# Altium footprint library IC.PcbLib: 28 footprints (part 2 of 2)
Each footprint in its own frame and in the unit in brackets; x right, y up, seen from the top. Pads: shape width x height; smd on the part's side, far side on the other; paste and mask are expansions set on the pad; w line width, h text height; cw(c..) or ccw(c..) is an arc to the next point about the centre after c.
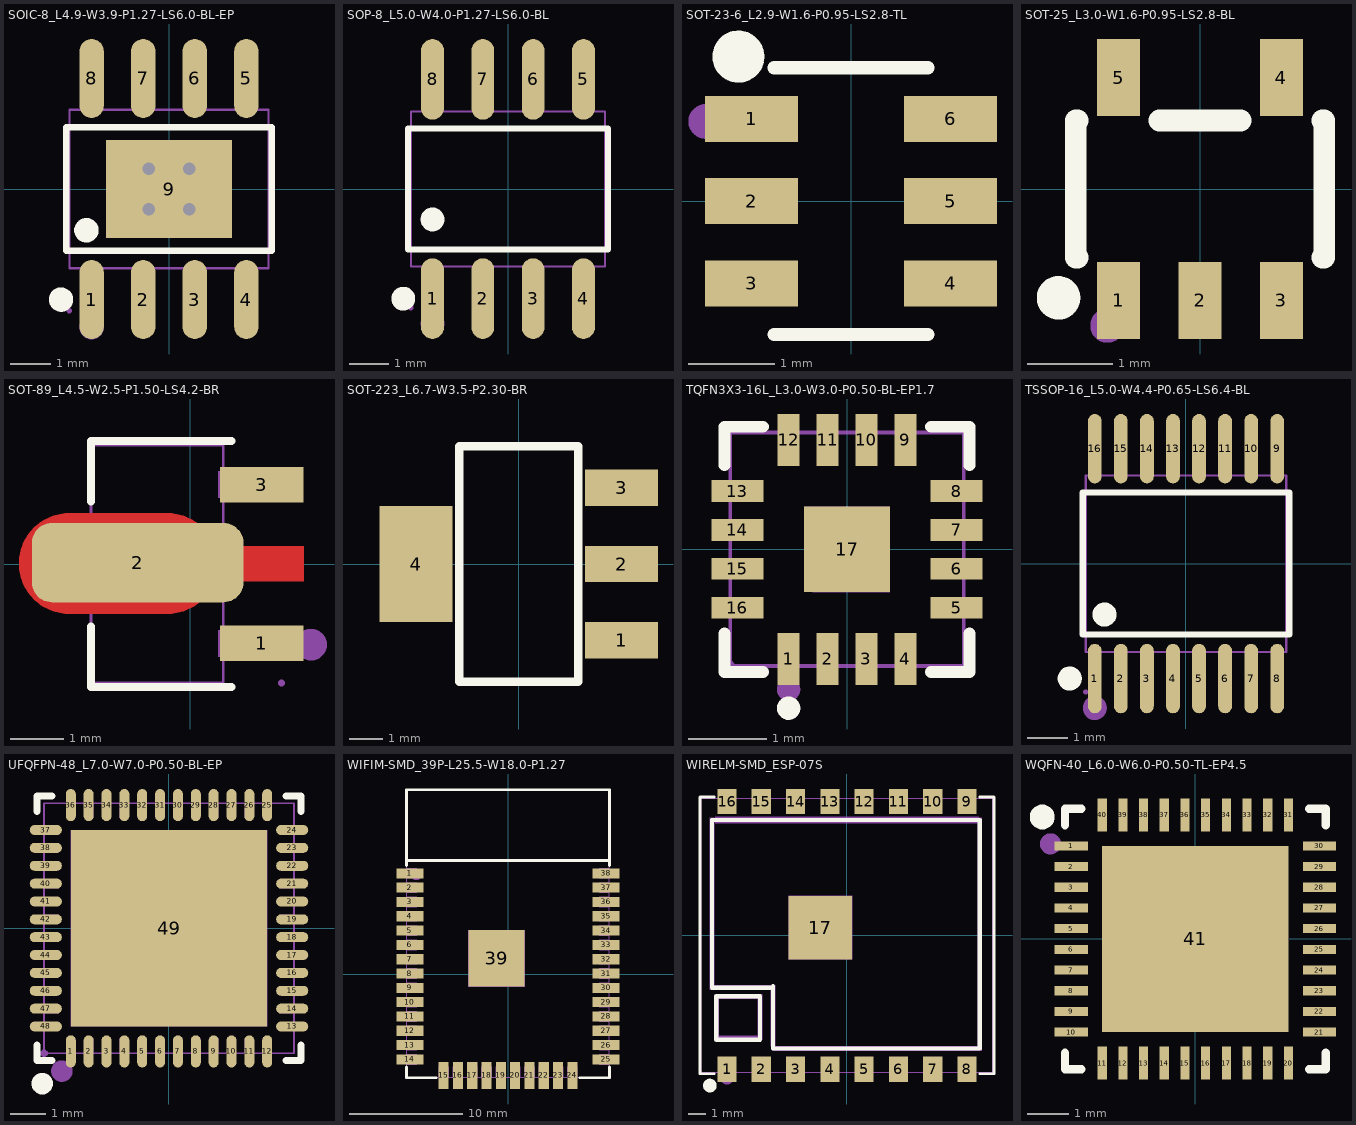
[diagram p1: the footprints below, top view; thin cyan lines are the x and y axes]

## SOIC-8_L4.9-W3.9-P1.27-LS6.0-BL-EP [mm]
pads (9):
  oval 0.602x1.941 smd mask+0.051: 1(-1.905,-2.721) 2(-0.635,-2.721) 3(0.635,-2.721) 4(1.905,-2.721) 5(1.905,2.721) 6(0.635,2.721) 7(-0.635,2.721) 8(-1.905,2.721)
  rect 3.098x2.41 smd mask+0.051: 9(0,0)
via -0.5,0.5 diameter 0.61 hole 0.305
via 0.5,0.5 diameter 0.61 hole 0.305
via -0.5,-0.5 diameter 0.61 hole 0.305
via 0.5,-0.5 diameter 0.61 hole 0.305
Top Overlay:
  circle w0.3: c-2.032,-1.016 r0.15
  circle w0.3: c-2.658,-2.721 r0.15
  lines w0.152: -2.526,-1.521 -2.526,1.521 2.526,1.521 2.526,-1.521 -2.526,-1.521
Mechanical 6:
  circle w0.3: c-1.905,-3.4 r0.15
Mechanical 15:
  region: -2.39,-3 -2.39,-2.975 -2.425,-2.94 -2.475,-2.94 -2.51,-2.975 -2.51,-3 -2.51,-3.025 -2.475,-3.06 -2.425,-3.06 -2.39,-3.025
  region: -2.12,-3 -2.12,-2.35 -1.69,-2.35 -1.69,-3
  region: -2.12,-2.36 -2.12,-1.94 -1.69,-1.94 -1.69,-2.36
  region: -0.85,-3 -0.85,-2.35 -0.42,-2.35 -0.42,-3
  region: -0.85,-2.36 -0.85,-1.94 -0.42,-1.94 -0.42,-2.36
  region: 0.42,-3 0.42,-2.35 0.85,-2.35 0.85,-3
  region: 0.42,-2.36 0.42,-1.94 0.85,-1.94 0.85,-2.36
  region: 1.69,-3 1.69,-2.35 2.12,-2.35 2.12,-3
  region: 1.69,-2.36 1.69,-1.94 2.12,-1.94 2.12,-2.36
  region: -2.12,3 -2.12,2.35 -1.69,2.35 -1.69,3
  region: -2.12,2.36 -2.12,1.94 -1.69,1.94 -1.69,2.36
  region: -0.85,3 -0.85,2.35 -0.42,2.35 -0.42,3
  region: -0.85,2.36 -0.85,1.94 -0.42,1.94 -0.42,2.36
  region: 0.42,3 0.42,2.35 0.85,2.35 0.85,3
  region: 0.42,2.36 0.42,1.94 0.85,1.94 0.85,2.36
  region: 1.69,3 1.69,2.35 2.12,2.35 2.12,3
  region: 1.69,2.36 1.69,1.94 2.12,1.94 2.12,2.36
  region: -1.549,1.205 1.549,1.205 1.549,-1.205 -1.549,-1.205
  lines w0.051: -2.45,-1.95 -2.45,1.95 2.45,1.95 2.45,-1.95 -2.45,-1.95
3D body "User Library-SOIC-8-1.step": height 1.75, standoff 0, extent -2.45,-3 2.45,3

## SOP-8_L5.0-W4.0-P1.27-LS6.0-BL [mm]
pads (8):
  oval 0.574x2.036 smd paste+0 mask+0.051: 1(-1.905,-2.768) 2(-0.635,-2.768) 3(0.635,-2.768) 4(1.905,-2.768) 5(1.905,2.768) 6(0.635,2.768) 7(-0.635,2.768) 8(-1.905,2.768)
Top Overlay:
  circle w0.3: c-2.644,-2.768 r0.15
  circle w0.3: c-1.905,-0.769 r0.15
  lines w0.152: -2.526,-1.521 2.526,-1.521 2.526,1.521 -2.526,1.521 -2.526,-1.521
Mechanical 6:
  circle w0.3: c-1.905,-3.398 r0.15
Mechanical 15:
  region: 1.7,2.172 1.7,1.94 2.11,1.94 2.11,2.172
  region: 1.7,2.998 1.7,2.163 2.11,2.163 2.11,2.998
  region: 0.43,2.172 0.43,1.94 0.84,1.94 0.84,2.172
  region: 0.43,2.998 0.43,2.163 0.84,2.163 0.84,2.998
  region: -0.84,2.172 -0.84,1.94 -0.43,1.94 -0.43,2.172
  region: -0.84,2.998 -0.84,2.163 -0.43,2.163 -0.43,2.998
  region: -2.11,2.172 -2.11,1.94 -1.7,1.94 -1.7,2.172
  region: -2.11,2.998 -2.11,2.163 -1.7,2.163 -1.7,2.998
  region: 1.7,-2.172 1.7,-1.94 2.11,-1.94 2.11,-2.172
  region: 1.7,-2.998 1.7,-2.163 2.11,-2.163 2.11,-2.998
  region: 0.43,-2.172 0.43,-1.94 0.84,-1.94 0.84,-2.172
  region: 0.43,-2.998 0.43,-2.163 0.84,-2.163 0.84,-2.998
  region: -0.84,-2.172 -0.84,-1.94 -0.43,-1.94 -0.43,-2.172
  region: -0.84,-2.998 -0.84,-2.163 -0.43,-2.163 -0.43,-2.998
  region: -2.11,-2.172 -2.11,-1.94 -1.7,-1.94 -1.7,-2.172
  region: -2.11,-2.998 -2.11,-2.163 -1.7,-2.163 -1.7,-2.998
  region: -2.39,-2.998 -2.39,-2.973 -2.425,-2.938 -2.475,-2.938 -2.51,-2.973 -2.51,-2.998 -2.51,-3.022 -2.475,-3.057 -2.425,-3.057 -2.39,-3.022
  lines w0.051: -2.45,-1.95 2.45,-1.95 2.45,1.95 -2.45,1.95 -2.45,-1.95
3D body "User Library-sop-8.step": height 1.6, standoff 0, extent -2.51,-3.021 2.51,3.021

## SOT-23-6_L2.9-W1.6-P0.95-LS2.8-TL [mm]
pads (6):
  rect 1.072x0.532 smd: 1(-1.149,0.95) 2(-1.149,0) 3(-1.149,-0.95) 4(1.149,-0.95) 5(1.149,0) 6(1.149,0.95)
Top Overlay:
  circle w0.3: c-1.301,1.668 r0.15
  lines w0.152: -0.889,-1.539 0.889,-1.539 ; -0.889,1.539 0.889,1.539
Mechanical 15:
  circle w0.2: c-1.68,0.92 r0.1
3D body "User Library-SOT23-6-1.step": height 1.09, standoff 0, extent -1.245,-1.41 1.181,1.384

## SOT-25_L3.0-W1.6-P0.95-LS2.8-BL [mm]
pads (5):
  rect 0.5x0.9 smd: 1(-0.95,-1.3) 2(0,-1.3) 3(0.95,-1.3) 4(0.95,1.3) 5(-0.95,1.3)
Top Overlay:
  circle w0.254: c-1.651,-1.27 r0.127
  lines w0.254: -1.426,-0.8 -1.45,-0.8 -1.45,0.8 -1.426,0.8 ; -0.474,0.8 0.474,0.8 ; 1.426,-0.8 1.45,-0.8 1.45,0.8 1.426,0.8
Mechanical 15:
  circle w0.2: c-1.081,-1.593 r0.1
3D body "User Library-sot25.step": height 1.1, standoff -0.05, extent -1.5,-1.198 1.5,1.202

## SOT-89_L4.5-W2.5-P1.50-LS4.2-BR [mm]
pads (3):
  rect 1.575x0.672 smd paste+0 mask+0.051: 1(1.356,-1.5) 3(1.356,1.5)
  rrect50% 4x1.5 smd: 2(-0.991,0.025)
Top Layer:
  region: -2.283,0.959 -0.429,0.959 -0.385,0.958 -0.34,0.955 -0.296,0.949 -0.252,0.942 -0.208,0.933 -0.165,0.921 -0.123,0.908 -0.081,0.893 -0.04,0.875 0,0.856 0.04,0.835 0.078,0.812 0.115,0.788 0.151,0.761 0.185,0.733 0.219,0.704 0.251,0.673 0.281,0.64 0.31,0.606 0.337,0.571 0.362,0.534 0.386,0.497 0.408,0.458 0.428,0.418 0.447,0.339 2.144,0.339 2.144,-0.321 0.447,-0.321 0.428,-0.401 0.408,-0.44 0.386,-0.479 0.362,-0.517 0.337,-0.553 0.31,-0.588 0.281,-0.622 0.251,-0.655 0.219,-0.686 0.185,-0.716 0.151,-0.744 0.115,-0.77 0.078,-0.795 0.04,-0.818 0,-0.839 -0.04,-0.858 -0.081,-0.875 -0.123,-0.89 -0.165,-0.904 -0.208,-0.915 -0.252,-0.925 -0.296,-0.932 -0.34,-0.937 -0.385,-0.94 -0.429,-0.941 -2.283,-0.941 -2.328,-0.94 -2.372,-0.937 -2.416,-0.932 -2.46,-0.925 -2.504,-0.915 -2.547,-0.904 -2.589,-0.89 -2.631,-0.875 -2.672,-0.858 -2.713,-0.839 -2.752,-0.818 -2.79,-0.795 -2.827,-0.77 -2.863,-0.744 -2.898,-0.716 -2.931,-0.686 -2.963,-0.655 -2.993,-0.622 -3.022,-0.588 -3.049,-0.553 -3.075,-0.517 -3.098,-0.479 -3.12,-0.44 -3.141,-0.401 -3.159,-0.36 -3.175,-0.318 -3.189,-0.276 -3.202,-0.233 -3.212,-0.19 -3.22,-0.146 -3.227,-0.102 -3.231,-0.058 -3.233,-0.013 -3.233,0.031 -3.231,0.076 -3.227,0.12 -3.22,0.164 -3.212,0.208 -3.202,0.251 -3.189,0.294 -3.175,0.336 -3.159,0.377 -3.141,0.418 -3.12,0.458 -3.098,0.497 -3.075,0.534 -3.049,0.571 -3.022,0.606 -2.993,0.64 -2.963,0.673 -2.931,0.704 -2.898,0.733 -2.863,0.761 -2.827,0.788 -2.79,0.812 -2.752,0.835 -2.713,0.856 -2.672,0.875 -2.631,0.893 -2.589,0.908 -2.547,0.921 -2.504,0.933 -2.46,0.942 -2.416,0.949 -2.372,0.955 -2.328,0.958
Top Overlay:
  lines w0.152: -1.871,-1.177 -1.871,-2.326 0.781,-2.326 ; -1.871,1.177 -1.871,2.326 0.781,2.326
Mechanical 6:
  circle w0.3: c2.286,-1.524 r0.15
Mechanical 15:
  region: 0.529,1.75 1.729,1.75 1.729,1.25 0.529,1.25
  region: 0.529,-1.25 1.729,-1.25 1.729,-1.75 0.529,-1.75
  region: 0.439,-0.26 1.724,-0.26 1.724,0.26 0.439,0.26 -0.136,0.863 -1.796,0.863 -2.371,0.288 -2.371,-0.287 -1.796,-0.862 -0.136,-0.862
  region: 1.789,-2.25 1.789,-2.225 1.754,-2.19 1.704,-2.19 1.669,-2.225 1.669,-2.25 1.669,-2.275 1.704,-2.31 1.754,-2.31 1.789,-2.275
  lines w0.051: -1.871,-2.25 0.629,-2.25 0.629,2.25 -1.871,2.25 -1.871,-2.25
3D body "CircuitWorks-SOT-89.step": height 1.5, standoff 0, extent -2.385,-2.225 1.615,2.275

## SOT-223_L6.7-W3.5-P2.30-BR [mm]
pads (4):
  rect 2.2x1.1 smd: 1(3.099,-2.3) 2(3.099,0) 3(3.099,2.3)
  rect 2.2x3.5 smd: 4(-3.099,0)
Top Overlay:
  lines w0.254: -1.8,-3.55 1.8,-3.55 1.8,3.55 -1.8,3.55 -1.8,-3.55
Mechanical 15:
  circle w0.254: c3.683,-2.286 r0.127
3D body "CircuitWorks-SOT-223.step": height 1.66, standoff -0.02, extent -3.48,-3.25 3.48,3.25

## TQFN3X3-16L_L3.0-W3.0-P0.50-BL-EP1.7 [mm]
pads (17):
  rect 0.28x0.665 smd paste+0 mask+0.051: 1(-0.75,-1.407) 2(-0.25,-1.407) 3(0.25,-1.407) 4(0.75,-1.407) 9(0.75,1.407) 10(0.25,1.407) 11(-0.25,1.407) 12(-0.75,1.407)
  rect 0.665x0.28 smd paste+0 mask+0.051: 5(1.407,-0.75) 6(1.407,-0.25) 7(1.407,0.25) 8(1.407,0.75) 13(-1.407,0.75) 14(-1.407,0.25) 15(-1.407,-0.25) 16(-1.407,-0.75)
  rect 1.1x1.1 smd paste+0 mask+0.051: 17(0,0)
Top Overlay:
  circle w0.15: c-0.75,-2.04 r0.075
  lines w0.152: -1.576,-1.08 -1.576,-1.576 -1.08,-1.576 ; -1.576,1.08 -1.576,1.576 -1.08,1.576 ; 1.08,-1.576 1.576,-1.576 1.576,-1.08 ; 1.08,1.576 1.576,1.576 1.576,1.08
Mechanical 6:
  circle w0.15: c-0.75,-1.8 r0.075
Mechanical 15:
  region: -1.44,-1.5 -1.44,-1.475 -1.475,-1.44 -1.525,-1.44 -1.56,-1.475 -1.56,-1.5 -1.56,-1.525 -1.525,-1.56 -1.475,-1.56 -1.44,-1.525
  region: -0.875,-1.5 -0.875,-1.1 -0.625,-1.1 -0.625,-1.5
  region: -0.375,-1.5 -0.375,-1.1 -0.125,-1.1 -0.125,-1.5
  region: 0.125,-1.5 0.125,-1.1 0.375,-1.1 0.375,-1.5
  region: 0.625,-1.5 0.625,-1.1 0.875,-1.1 0.875,-1.5
  region: 1.1,-0.875 1.1,-0.625 1.5,-0.625 1.5,-0.875
  region: 1.1,-0.375 1.1,-0.125 1.5,-0.125 1.5,-0.375
  region: 1.1,0.125 1.1,0.375 1.5,0.375 1.5,0.125
  region: 1.1,0.625 1.1,0.875 1.5,0.875 1.5,0.625
  region: 0.625,1.5 0.625,1.1 0.875,1.1 0.875,1.5
  region: 0.125,1.5 0.125,1.1 0.375,1.1 0.375,1.5
  region: -0.375,1.5 -0.375,1.1 -0.125,1.1 -0.125,1.5
  region: -0.875,1.5 -0.875,1.1 -0.625,1.1 -0.625,1.5
  region: -1.1,0.625 -1.1,0.875 -1.5,0.875 -1.5,0.625
  region: -1.1,0.125 -1.1,0.375 -1.5,0.375 -1.5,0.125
  region: -1.1,-0.375 -1.1,-0.125 -1.5,-0.125 -1.5,-0.375
  region: -1.1,-0.875 -1.1,-0.625 -1.5,-0.625 -1.5,-0.875
  region: -0.55,-0.44 -0.55,0.55 0.55,0.55 0.55,-0.55 -0.44,-0.55
  lines w0.051: -1.5,-1.5 -1.5,1.5 1.5,1.5 1.5,-1.5 -1.5,-1.5
3D body "U1.step": height 0.82, standoff 0, extent -1.519,-1.518 1.516,1.516

## TSSOP-16_L5.0-W4.4-P0.65-LS6.4-BL [mm]
pads (16):
  oval 0.343x1.731 smd paste+0 mask+0.051: 1(-2.275,-2.866) 2(-1.625,-2.866) 3(-0.975,-2.866) 4(-0.325,-2.866) 5(0.325,-2.866) 6(0.975,-2.866) 7(1.625,-2.866) 8(2.275,-2.866) 9(2.275,2.866) 10(1.625,2.866) 11(0.975,2.866) 12(0.325,2.866) 13(-0.325,2.866) 14(-0.975,2.866) 15(-1.625,2.866) 16(-2.275,2.866)
Top Overlay:
  circle w0.3: c-2.899,-2.866 r0.15
  circle w0.3: c-2.032,-1.27 r0.15
  lines w0.152: -2.576,-1.771 2.576,-1.771 2.576,1.772 -2.576,1.772 -2.576,-1.771
Mechanical 6:
  circle w0.3: c-2.275,-3.6 r0.15
Mechanical 15:
  drawing of 37 lines, arcs and shapes, not listed
3D body "User Library-TSSOP-16-1.step": height 1.1, standoff 0, extent -2.5,-3.2 2.5,3.2

## UFQFPN-48_L7.0-W7.0-P0.50-BL-EP [mm]
pads (49):
  oval 0.28x0.9 smd paste+0 mask+0.051: 1(-2.751,-3.449) 2(-2.25,-3.449) 3(-1.75,-3.449) 4(-1.25,-3.449) 5(-0.749,-3.449) 6(-0.249,-3.449) 7(0.249,-3.449) 8(0.749,-3.449) 9(1.25,-3.449) 10(1.75,-3.449) 11(2.251,-3.449) 12(2.751,-3.449) 25(2.751,3.449) 26(2.251,3.449) 27(1.75,3.449) 28(1.25,3.449) 29(0.749,3.449) 30(0.249,3.449) 31(-0.249,3.449) 32(-0.749,3.449) 33(-1.25,3.449) 34(-1.75,3.449) 35(-2.25,3.449) 36(-2.751,3.449)
  oval 0.9x0.28 smd paste+0 mask+0.051: 13(3.449,-2.751) 14(3.449,-2.251) 15(3.449,-1.75) 16(3.449,-1.25) 17(3.449,-0.749) 18(3.449,-0.249) 19(3.449,0.249) 20(3.449,0.749) 21(3.449,1.25) 22(3.449,1.75) 23(3.449,2.25) 24(3.449,2.751) 37(-3.449,2.751) 38(-3.449,2.25) 39(-3.449,1.75) 40(-3.449,1.25) 41(-3.449,0.749) 42(-3.449,0.249) 43(-3.449,-0.249) 44(-3.449,-0.749) 45(-3.449,-1.25) 46(-3.449,-1.75) 47(-3.449,-2.251) 48(-3.449,-2.751)
  rect 5.5x5.5 smd paste+0 mask+0.051: 49(0,0)
Top Overlay:
  lines w0.2: -3.7,-3.275 -3.7,-3.7 -3.275,-3.7 ; -3.7,3.275 -3.7,3.7 -3.275,3.7 ; 3.275,-3.7 3.7,-3.7 3.7,-3.275 ; 3.275,3.7 3.7,3.7 3.7,3.275
  lines w0.3: -3.551,-4.201 ccw(c-3.55,-4.351) -3.548,-4.201
Mechanical 6:
  circle w0.3: c-3,-4 r0.15
Mechanical 15:
  drawing of 54 lines, arcs and shapes, not listed
3D body "ALSRobot-QFN48 7x7.step": height 0.78, standoff -0.02, extent -3.51,-3.51 3.51,3.51

## WIFIM-SMD_39P-L25.5-W18.0-P1.27 [mil]
pads (39):
  rect 94.5x35.4 smd mask+2: 1(-342.5,353) 2(-342.5,303) 3(-342.5,253) 4(-342.5,203) 5(-342.5,153) 6(-342.5,103) 7(-342.5,53) 8(-342.5,3) 9(-342.5,-47) 10(-342.5,-97) 11(-342.5,-147) 12(-342.5,-197) 13(-342.5,-247) 14(-342.5,-297) 25(342.5,-297) 26(342.5,-247) 27(342.5,-197) 28(342.5,-147) 29(342.5,-97) 30(342.5,-47) 31(342.5,3) 32(342.5,53) 33(342.5,103) 34(342.5,153) 35(342.5,203) 36(342.5,253) 37(342.5,303) 38(342.5,353)
  rect 35.4x94.5 smd mask+2: 15(-225,-353) 16(-175,-353) 17(-125,-353) 18(-75,-353) 19(-25,-353) 20(25,-352.9) 21(75,-352.9) 22(125,-352.9) 23(175,-352.9) 24(225,-352.9)
  rect 196.9x196.9 smd mask+2: 39(-40,56)
Top Overlay:
  lines w10: -355,-323.9 -355,-361.1 -251.8,-361.1 ; -355,379.8 -355,398 355,398 355,379.8 ; 251.8,-361.1 355,-361.1 355,-323.9 ; -354.3,397.1 354.4,397.1 354.4,645.1 -354.3,645.1 -354.3,397.1
Mechanical 6:
  circle w19.7: c-320,348.9 r9.8
Mechanical 15:
  drawing of 44 lines, arcs and shapes, not listed
3D body "3D_PCB1_2022-09-17.step": height 121.08, standoff -1.01, extent -354.51,-355.7 354.12,648.2

## WIRELM-SMD_ESP-07S [mm]
pads (17):
  rect 1.12x1.465 smd mask+0.051: 1(-7,-7.807) 2(-5,-7.807) 3(-3,-7.807) 4(-1,-7.807) 5(1,-7.807) 6(3,-7.807) 7(5,-7.807) 8(7,-7.807) 9(7,7.807) 10(5,7.807) 11(3,7.807) 12(1,7.807) 13(-1,7.807) 14(-3,7.807) 15(-5,7.807) 16(-7,7.807)
  rect 3.7x3.7 smd mask+0.05: 17(-1.55,0.45)
Top Overlay:
  circle w0.4: c-8.001,-8.763 r0.2
  lines w0.152: -7.75,-8.076 -8.576,-8.076 -8.576,8.076 -7.75,8.076 ; 7.751,-8.076 8.576,-8.076 8.576,8.076 7.751,8.076
  lines w0.254: -4.319,-3.047 -7.875,-3.047 -7.875,6.732 7.746,6.732 7.746,-6.603 -4.319,-6.603 -4.319,-2.976 ; -7.62,-6.096 -7.62,-3.556 -5.08,-3.556 -5.08,-6.096 -7.62,-6.096
Mechanical 6:
  circle w0.4: c-7,-8.3 r0.2
  region: -7.747,-2.921 -7.747,6.858 -8.001,6.858 -8.001,-2.921
  region: -4.318,-2.921 -8.001,-2.921 -8.001,-3.175 -4.445,-3.175
  region: -4.191,-6.477 -4.191,-2.921 -4.445,-2.921 -4.445,-6.477
  region: 7.62,-6.477 -4.318,-6.477 -4.318,-6.731 7.62,-6.731
  region: 7.62,6.858 7.874,6.858 7.874,-6.731 7.62,-6.731 7.62,-6.604
  region: -7.683,6.54 7.684,6.54 7.684,6.921 -7.683,6.921
  region: -5.202,-6.119 -7.742,-6.119 -7.742,-3.452 -7.488,-3.452 -7.488,-5.865 -5.202,-5.865
  region: -7.493,-3.429 -4.953,-3.429 -4.953,-6.096 -5.207,-6.096 -5.207,-3.683 -7.493,-3.683
Mechanical 15:
  region: -3.4,-1.4 -3.4,2.3 0.3,2.3 0.3,-1.4
  region: -7.5,8 -7.5,7.1 -6.5,7.1 -6.5,8
  region: -5.5,8 -5.5,7.1 -4.5,7.1 -4.5,8
  region: -3.5,8 -3.5,7.1 -2.5,7.1 -2.5,8
  region: -1.5,8 -1.5,7.1 -0.5,7.1 -0.5,8
  region: 0.5,8 0.5,7.1 1.5,7.1 1.5,8
  region: 2.5,8 2.5,7.1 3.5,7.1 3.5,8
  region: 4.5,8 4.5,7.1 5.5,7.1 5.5,8
  region: 6.5,8 6.5,7.1 7.5,7.1 7.5,8
  region: 6.5,-8 6.5,-7.1 7.5,-7.1 7.5,-8
  region: 4.5,-8 4.5,-7.1 5.5,-7.1 5.5,-8
  region: 2.5,-8 2.5,-7.1 3.5,-7.1 3.5,-8
  region: 0.5,-8 0.5,-7.1 1.5,-7.1 1.5,-8
  region: -1.5,-8 -1.5,-7.1 -0.5,-7.1 -0.5,-8
  region: -3.5,-8 -3.5,-7.1 -2.5,-7.1 -2.5,-8
  region: -5.5,-8 -5.5,-7.1 -4.5,-7.1 -4.5,-8
  region: -7.5,-8 -7.5,-7.1 -6.5,-7.1 -6.5,-8
  region: -8.44,-8 -8.44,-7.975 -8.475,-7.94 -8.525,-7.94 -8.56,-7.975 -8.56,-8 -8.56,-8.025 -8.525,-8.06 -8.475,-8.06 -8.44,-8.025
  lines w0.051: -8.5,-8 8.5,-8 8.5,8 -8.5,8 -8.5,-8
3D body "3D_PCB1_2022-10-17.step": height 3.19, standoff 0, extent -8.5,-8.035 8.5,7.985

## WQFN-40_L6.0-W6.0-P0.50-TL-EP4.5 [mm]
pads (41):
  rect 0.8x0.22 smd: 1(-3,2.25) 2(-3,1.75) 3(-3,1.25) 4(-3,0.75) 5(-3,0.25) 6(-3,-0.25) 7(-3,-0.75) 8(-3,-1.25) 9(-3,-1.75) 10(-3,-2.25) 21(3,-2.25) 22(3,-1.75) 23(3,-1.25) 24(3,-0.75) 25(3,-0.25) 26(3,0.25) 27(3,0.75) 28(3,1.25) 29(3,1.75) 30(3,2.25)
  rect 0.22x0.8 smd: 11(-2.25,-3) 12(-1.75,-3) 13(-1.25,-3) 14(-0.75,-3) 15(-0.25,-3) 16(0.25,-3) 17(0.75,-3) 18(1.25,-3) 19(1.75,-3) 20(2.25,-3) 31(2.25,3) 32(1.75,3) 33(1.25,3) 34(0.75,3) 35(0.25,3) 36(-0.25,3) 37(-0.75,3) 38(-1.25,3) 39(-1.75,3) 40(-2.25,3)
  rect 4.5x4.5 smd: 41(0,0)
Top Overlay:
  lines w0.2: -3.15,-2.75 -3.15,-3.15 -2.75,-3.15 ; -3.15,2.75 -3.15,3.15 -2.75,3.15 ; 2.75,-3.15 3.15,-3.15 3.15,-2.75 ; 2.75,3.15 3.15,3.15 3.15,2.75
  lines w0.3: -3.551,2.946 cw(c-3.701,2.948) -3.551,2.949
Top Paste:
  drawing of 41 lines, arcs and shapes, not listed
Mechanical 15:
  circle w0.254: c-3.5,2.3 r0.127
3D body "ALSRobot-QFN40 6X6.STEP": height 1.04, standoff -0.01, extent -3.048,-3.075 3.102,3.075